# Altium integrated library 74HCT4051PW_118.IntLib: 1 symbol
Pins are listed as number, name and electrical type; pins without a type are passive.

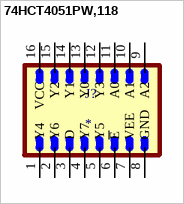
[diagram p0: symbol 74HCT4051PW,118]

## 74HCT4051PW,118
designator J?
Analog Multiplexer Single 8:1 16-Pin TSSOP T/R; MF: Nexperia; MP: 74HCT4051PW,118; Package: TSSOP16-16 Nexperia USA Inc.; Price: None; Check_prices: https://www.snapeda.com/parts/74HCT4051PW,118/Nexperia/view-part/?ref=eda; Value: *; SnapEDA_Link: https://www.snapeda.com/parts/74HCT4051PW,118/Nexperia/view-part/?ref=snap; Availability: In Stock; Purchase-URL: https://pricing.snapeda.com/search?q=74HCT4051PW,118&ref=eda
footprint TSSOP-16
pins: 1 Y4, 2 Y6, 3 D, 4 Y7, 5 Y5, 6 ~{E}, 7 VEE, 8 GND, 9 A2, 10 A1, 11 A0, 12 Y3, 13 Y0, 14 Y1, 15 Y2, 16 VCC